# Altium footprint library IFBpcblib_offline.PcbLib: 137 footprints (part 4 of 9)
Each footprint in its own frame and in the unit in brackets; x right, y up, seen from the top. Pads: shape width x height; smd on the part's side, far side on the other; paste and mask are expansions set on the pad; w line width, h text height; cw(c..) or ccw(c..) is an arc to the next point about the centre after c.
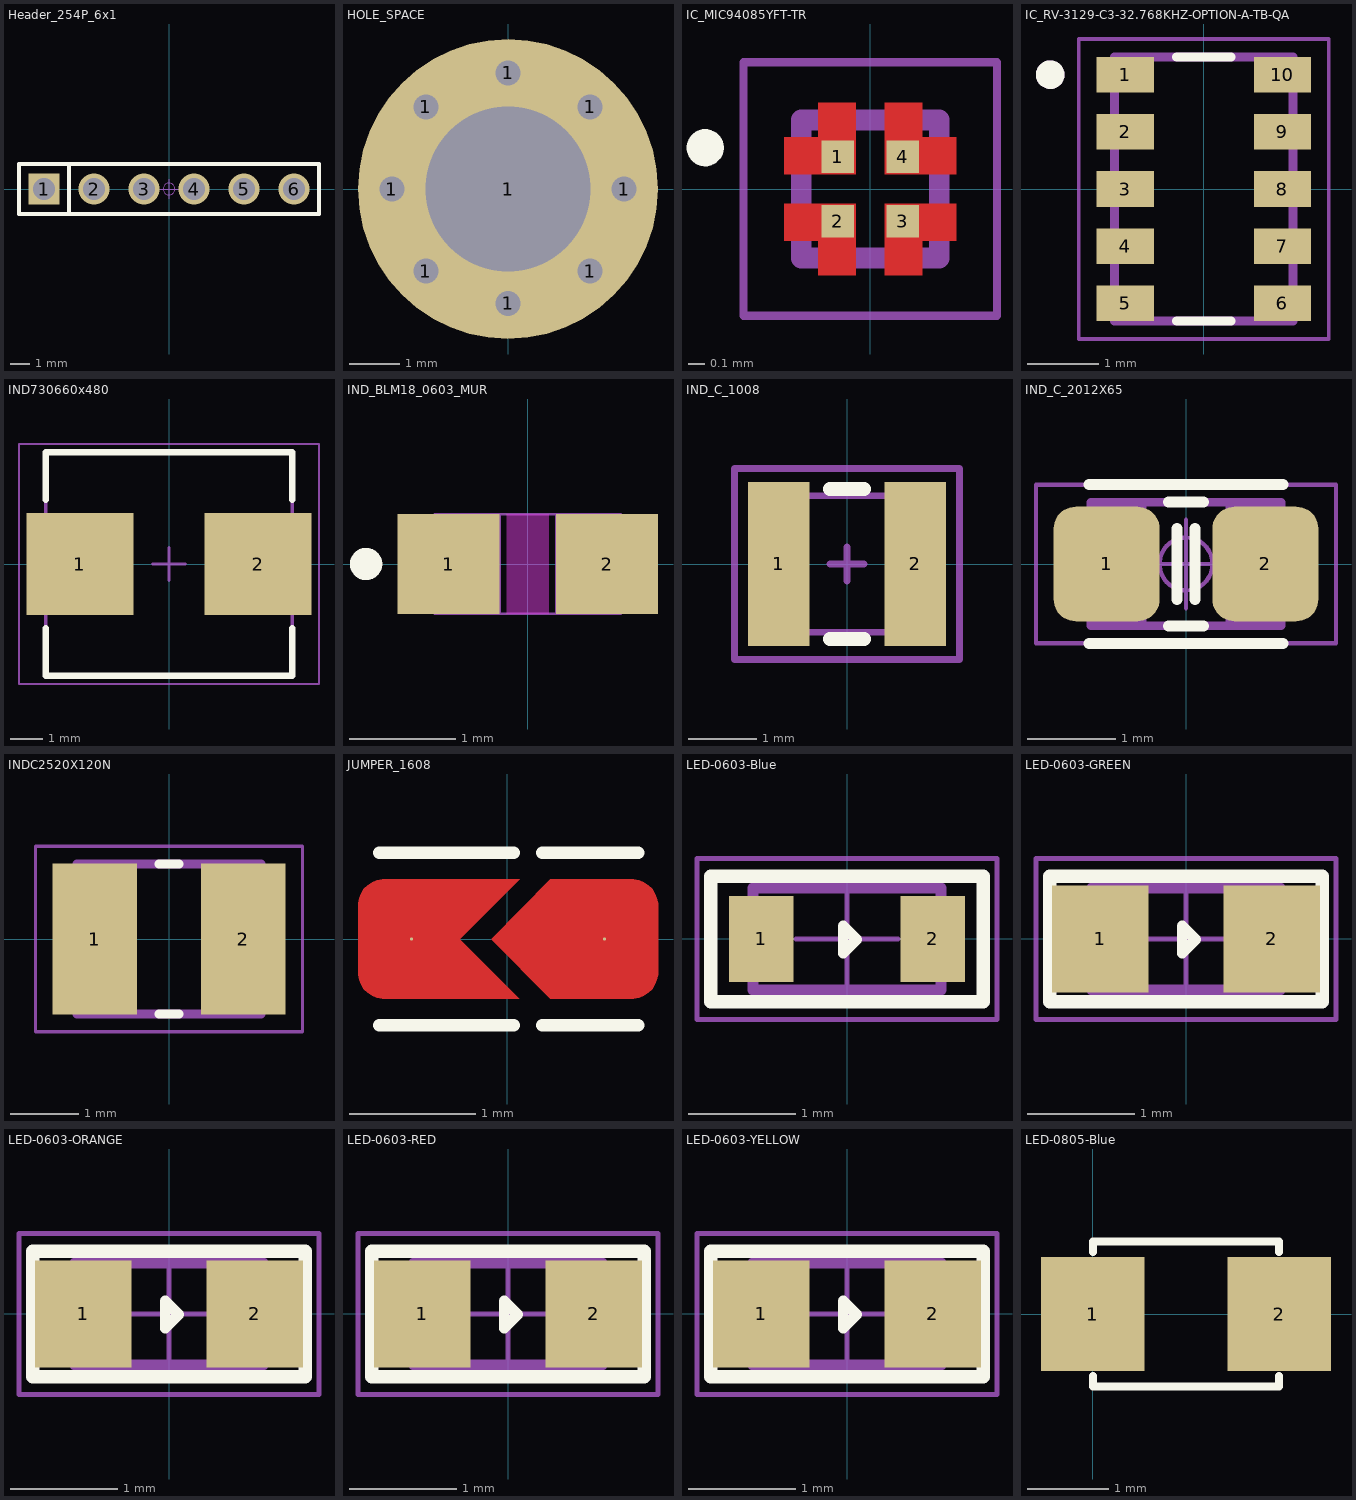
[diagram p3: the footprints below, top view; thin cyan lines are the x and y axes]

## Header_254P_6x1 [mm]
pads (6):
  rect 1.6x1.6 hole 1.1: 1(-6.35,0)
  round 1.6 hole 1.1: 2(-3.81,0) 3(-1.27,0) 4(1.27,0) 5(3.81,0) 6(6.35,0)
Top Overlay:
  lines w0.2: -5.08,-1.27 -5.08,1.27 ; -7.62,-1.27 -7.62,1.27 7.62,1.27 7.62,-1.27 -7.62,-1.27
Top Assembly:
  lines w0.2: -5.08,-1.27 -5.08,1.27 ; -7.62,-1.27 -7.62,1.27 7.62,1.27 7.62,-1.27 -7.62,-1.27
  text "'.Designator'" at -3.952,-0.624 h1.5
Top Component Center:
  circle w0.05: c0,0 r0.3
  lines w0.05: -0.5,0 0.5,0 ; 0,-0.5 0,0.5

## HOLE_SPACE [mm]
pads (9):
  round 1 hole 0.5: 1(-2.325,0) 1(-1.644,-1.644) 1(-1.644,1.644) 1(0,-2.286) 1(0,2.325) 1(1.644,-1.644) 1(1.644,1.644) 1(2.325,0)
  round 6 hole 3.3: 1(0,0)

## IC_MIC94085YFT-TR [mm]
height 0.6
pads (4):
  rect 0.2x0.2 smd paste-1 mask+0: 1(-0.2,0.2) 2(-0.2,-0.2) 3(0.2,-0.2) 4(0.2,0.2)
Top Layer:
  region: 0.32,0.32 0.53,0.32 0.53,0.09 0.09,0.09 0.09,0.53 0.32,0.53
  region: -0.09,-0.53 -0.32,-0.53 -0.32,-0.32 -0.53,-0.32 -0.53,-0.09 -0.09,-0.09
  region: 0.53,-0.32 0.32,-0.32 0.32,-0.53 0.09,-0.53 0.09,-0.09 0.53,-0.09
  region: -0.09,0.09 -0.53,0.09 -0.53,0.32 -0.32,0.32 -0.32,0.53 -0.09,0.53
Top Overlay:
  circle w0.127: c-1.016,0.254 r0.051
Top Paste:
  region: 0.32,0.32 0.49,0.32 0.49,0.09 0.09,0.09 0.09,0.53 0.32,0.53
  region: -0.09,-0.53 -0.32,-0.53 -0.32,-0.32 -0.49,-0.32 -0.49,-0.09 -0.09,-0.09
  region: 0.49,-0.32 0.32,-0.32 0.32,-0.53 0.09,-0.53 0.09,-0.09 0.49,-0.09
  region: -0.09,0.09 -0.49,0.09 -0.49,0.32 -0.32,0.32 -0.32,0.53 -0.09,0.53
Top Solder:
  region: 0.37,0.37 0.58,0.37 0.58,0.04 0.04,0.04 0.04,0.58 0.37,0.58
  region: -0.04,-0.58 -0.37,-0.58 -0.37,-0.37 -0.58,-0.37 -0.58,-0.04 -0.04,-0.04
  region: 0.58,-0.37 0.37,-0.37 0.37,-0.58 0.04,-0.58 0.04,-0.04 0.58,-0.04
  region: -0.04,0.04 -0.58,0.04 -0.58,0.37 -0.37,0.37 -0.37,0.58 -0.04,0.58
Mechanical 13:
  lines w0.127: -0.425,-0.425 -0.425,0.425 0.425,0.425 0.425,-0.425 -0.425,-0.425
Mechanical 15:
  lines w0.05: -0.78,-0.78 -0.78,0.78 0.78,0.78 0.78,-0.78 -0.78,-0.78
3D body "step_temp.STEP": height 0.6, standoff 0, extent -0.425,-0.425 0.425,0.425

## IC_RV-3129-C3-32.768KHZ-OPTION-A-TB-QA [mm]
height 0.9
pads (10):
  rect 0.8x0.5 smd: 1(-1.1,1.6) 2(-1.1,0.8) 3(-1.1,0) 4(-1.1,-0.8) 5(-1.1,-1.6) 6(1.1,-1.6) 7(1.1,-0.8) 8(1.1,0) 9(1.1,0.8) 10(1.1,1.6)
Top Overlay:
  circle w0.2: c-2.15,1.6 r0.1
  lines w0.127: -0.38,-1.85 0.38,-1.85 ; -0.38,1.85 0.38,1.85
Mechanical 13:
  circle w0.2: c-2.15,1.6 r0.1
  lines w0.127: -1.25,-1.85 1.25,-1.85 1.25,1.85 -1.25,1.85 -1.25,-1.85
Mechanical 15:
  lines w0.05: -1.75,-2.1 1.75,-2.1 1.75,2.1 -1.75,2.1 -1.75,-2.1
3D body "RV-3129-C3-32.768KHZ-OPTION-A-TB-QA.step": height 0.9, standoff 0, extent -1.25,-1.85 1.25,1.85

## IND730660x480 [mm] "Precision Wire Wound Inductor, 2-Leads, Body 7.30x6.60mm, IPC Medium Density"
height 4.8
pads (2):
  rect 3.3x3.15 smd: 1(-2.75,0) 2(2.75,0)
Top Overlay:
  lines w0.2: -3.8,-1.975 -3.8,-3.45 3.8,-3.45 3.8,-1.975 ; -3.8,1.975 -3.8,3.45 3.8,3.45 3.8,1.975
Top Courtyard:
  lines w0.05: -4.625,-3.7 4.625,-3.7 4.625,3.7 -4.625,3.7 -4.625,-3.7
  lines w0.1: -0.5,0 0.5,0 ; 0,-0.5 0,0.5
Top 3D Body:
  lines w0.1: -3.8,-3.45 3.8,-3.45 3.8,3.45 -3.8,3.45 -3.8,-3.45
3D body "PSM6050 Molded high current inductor.STEP": height 4.91, standoff -0.05, extent -3.6,-3.3 3.6,3.3

## IND_BLM18_0603_MUR [mil]
pads (2):
  rect 37.78x37 smd paste+0 mask+0: 1(-29.39,0) 2(29.39,0)
Top Layer keep-out:
  rectangle: -7.87,-18.5 7.87,18.5
Top Overlay:
  circle w6: c-60,0 r3
Mechanical 13:
  circle w0: c-24.39,0 r3
  lines w1: -34.5,-18.5 -34.5,18.5 ; -34.5,-18.5 -10.5,-18.5 -10.5,18.5 -34.5,18.5 ; -34.5,-18.5 34.5,-18.5 ; -34.5,-18.5 -34.5,18.5 ; -34.5,18.5 34.5,18.5 ; 34.5,-18.5 10.5,-18.5 10.5,18.5 34.5,18.5 ; 34.5,-18.5 34.5,18.5 ; 34.5,-18.5 34.5,18.5
3D body "IND_BLM18_0603_MUR.step": height 37.01, standoff 0, extent -34.49,-18.5 34.49,18.5

## IND_C_1008 [mm]
pads (2):
  rect 0.9x2.4 smd mask+0.075: 1(-1,0) 2(1,0)
Top Overlay:
  lines w0.2: -0.25,-1.1 0.25,-1.1 ; -0.25,1.1 0.25,1.1
Top Assembly:
  lines w0.1: -1.25,-1 1.25,-1 1.25,1 -1.25,1 -1.25,-1
  text "'.Designator'" at -0.6,-0.25 h0.5
Top Courtyard:
  lines w0.1: -0.25,0 0.25,0 ; 0,-0.25 0,0.25 ; -1.65,-1.4 -1.65,1.4 1.65,1.4 1.65,-1.4 -1.65,-1.4
3D body: height 1.2, standoff 0, extent 0.663,-1 1.263,1
3D body: height 1.2, standoff 0, extent -0.637,-0.975 0.663,0.975
3D body: height 1.2, standoff 0, extent -1.237,-1 -0.637,1

## IND_C_2012X65 [mm] "Chip Inductor, 2-Leads, Body 2.00x1.25mm, IPC High Density"
height 0.65
pads (2):
  rrect41% 1.2x1.3 smd: 1(-0.9,0) 2(0.9,0)
Top Overlay:
  lines w0.125: -1.1,-0.9 1.1,-0.9 ; -1.1,0.9 1.1,0.9 ; -0.2,-0.7 0.2,-0.7 ; -0.2,0.7 0.2,0.7 ; -0.1,-0.4 -0.1,0.4 ; 0.1,-0.4 0.1,0.4
Top Assembly:
  lines w0.1: -1.075,-0.7 1.075,-0.7 1.075,0.7 -1.075,0.7 -1.075,-0.7
  text "'.Designator'" at -4.217,-0.663 h1.6
Top Courtyard:
  lines w0.05: -1.7,-0.9 1.7,-0.9 1.7,0.9 -1.7,0.9 -1.7,-0.9
Top Component Outline:
  rectangle: -1.1,-0.7 -0.45,0.7
  region: 1.1,0.7 0.45,0.7 0.45,-0.7 1.1,-0.7
  lines w0.05: -1.1,-0.7 -1.1,0.7 1.1,0.7 1.1,-0.7 -1.1,-0.7
Top Component Center:
  circle w0.05: c0,0 r0.3
  lines w0.05: -0.5,0 0.5,0 ; 0,-0.5 0,0.5
3D body "RESC2012X65.step": height 0.65, standoff 0, extent -1.075,-0.7 1.075,0.7

## INDC2520X120N [mm]
pads (2):
  rect 1.24x2.22 smd: 1(-1.09,0) 2(1.09,0)
Top Overlay:
  lines w0.127: -0.15,-1.1 0.15,-1.1 ; -0.15,1.1 0.15,1.1
Mechanical 13:
  lines w0.127: -1.35,-1.1 1.35,-1.1 1.35,1.1 -1.35,1.1 -1.35,-1.1
Mechanical 15:
  lines w0.05: -1.958,-1.358 1.958,-1.358 1.958,1.358 -1.958,1.358 -1.958,-1.358
3D body "DFE252012P-1R5M_P2.step": height 1.2, standoff 0, extent -1.25,-1 1.25,1

## JUMPER_1608 [mil]
pads (2):
  round 1 smd: 1(30.51,0)
  round 1 smd paste-99999 mask+4: 2(-30,0)
Top Layer:
  region: 38.88,-18.7 13.56,-18.7 -5,0 13.56,18.7 38.88,18.7 39.7,18.7 41.32,18.38 42.84,17.75 44.21,16.83 45.38,15.67 46.29,14.3 46.92,12.77 47.24,11.16 47.24,10.33 47.24,-10.33 47.24,-11.16 46.92,-12.77 46.29,-14.3 45.38,-15.67 44.21,-16.83 42.84,-17.75 41.32,-18.38 39.7,-18.7
  region: -14.86,-0.09 3.75,-18.7 -38.37,-18.7 -39.19,-18.7 -40.81,-18.38 -42.33,-17.75 -43.7,-16.83 -44.86,-15.67 -45.78,-14.3 -46.41,-12.77 -46.73,-11.16 -46.73,-10.33 -46.73,10.33 -46.73,11.16 -46.41,12.77 -45.78,14.3 -44.86,15.67 -43.7,16.83 -42.33,17.75 -40.81,18.38 -39.19,18.7 -38.37,18.7 3.93,18.7
Top Overlay:
  lines w3.94: -40,-27 2,-27 ; -40,27 2,27 ; 11,-27 41,-27 ; 11,27 41,27

## LED-0603-Blue [mm]
pads (2):
  rect 0.6x0.8 smd: 1(-0.8,0) 2(0.8,0)
Top Overlay:
  lines w0.1: -0.036,-0.133 0.091,-0.006 -0.036,0.121 -0.036,-0.133
  lines w0.127: -1.27,-0.584 -1.27,0.584 1.27,0.584 1.27,-0.584 -1.27,-0.584
Mechanical 13:
  lines w0.1: -0.875,-0.475 -0.875,0.475 0.875,0.475 0.875,-0.475 -0.875,-0.475
Mechanical 15:
  lines w0.05: -0.475,0 0.475,0 ; 0,-0.475 0,0.475 ; -1.397,-0.75 -1.397,0.75 1.397,0.75 1.397,-0.75 -1.397,-0.75
3D body "SMD_0603LED_BLUE.STEP": height 0.98, standoff 0.1, extent -0.808,-0.5 0.808,0.5

## LED-0603-GREEN [mm]
pads (2):
  rect 0.9x1 smd: 1(-0.8,0) 2(0.8,0)
Top Overlay:
  lines w0.1: -0.036,-0.133 -0.036,0.121 0.091,-0.006 -0.036,-0.133
  lines w0.127: -1.27,-0.584 1.27,-0.584 1.27,0.584 -1.27,0.584 -1.27,-0.584
Mechanical 13:
  lines w0.1: -0.875,-0.475 0.875,-0.475 0.875,0.475 -0.875,0.475 -0.875,-0.475
Mechanical 15:
  lines w0.05: -0.475,0 0.475,0 ; 0,-0.475 0,0.475 ; -1.397,-0.75 1.397,-0.75 1.397,0.75 -1.397,0.75 -1.397,-0.75
3D body "SMD_0603LED_GREEN.STEP": height 0.98, standoff 0.1, extent -0.808,-0.5 0.808,0.5

## LED-0603-ORANGE [mm]
pads (2):
  rect 0.9x1 smd: 1(-0.8,0) 2(0.8,0)
Top Overlay:
  lines w0.1: -0.036,-0.133 0.091,-0.006 -0.036,0.121 -0.036,-0.133
  lines w0.127: -1.27,-0.584 -1.27,0.584 1.27,0.584 1.27,-0.584 -1.27,-0.584
Mechanical 13:
  lines w0.1: -0.875,-0.475 -0.875,0.475 0.875,0.475 0.875,-0.475 -0.875,-0.475
Mechanical 15:
  lines w0.05: -0.475,0 0.475,0 ; 0,-0.475 0,0.475 ; -1.397,-0.75 -1.397,0.75 1.397,0.75 1.397,-0.75 -1.397,-0.75
3D body "LED0603_Orange.step": height 0.9, standoff 0, extent -0.85,-0.45 0.85,0.45

## LED-0603-RED [mm]
pads (2):
  rect 0.9x1 smd: 1(-0.8,0) 2(0.8,0)
Top Overlay:
  lines w0.1: -0.036,-0.133 0.091,-0.006 -0.036,0.121 -0.036,-0.133
  lines w0.127: -1.27,-0.584 -1.27,0.584 1.27,0.584 1.27,-0.584 -1.27,-0.584
Mechanical 13:
  lines w0.1: -0.875,-0.475 -0.875,0.475 0.875,0.475 0.875,-0.475 -0.875,-0.475
Mechanical 15:
  lines w0.05: -0.475,0 0.475,0 ; 0,-0.475 0,0.475 ; -1.397,-0.75 -1.397,0.75 1.397,0.75 1.397,-0.75 -1.397,-0.75
3D body "SMD_0603LED_RED.STEP": height 0.98, standoff 0.1, extent -0.808,-0.5 0.808,0.5

## LED-0603-YELLOW [mm]
pads (2):
  rect 0.9x1 smd: 1(-0.8,0) 2(0.8,0)
Top Overlay:
  lines w0.1: -0.036,-0.133 -0.036,0.121 0.091,-0.006 -0.036,-0.133
  lines w0.127: -1.27,-0.584 1.27,-0.584 1.27,0.584 -1.27,0.584 -1.27,-0.584
Mechanical 13:
  lines w0.1: -0.875,-0.475 0.875,-0.475 0.875,0.475 -0.875,0.475 -0.875,-0.475
Mechanical 15:
  lines w0.05: -0.475,0 0.475,0 ; 0,-0.475 0,0.475 ; -1.397,-0.75 1.397,-0.75 1.397,0.75 -1.397,0.75 -1.397,-0.75
3D body "SMD_0603LED_YEL.STEP": height 0.98, standoff 0.1, extent -0.808,-0.5 0.808,0.5

## LED-0805-Blue [mil]
pads (2):
  rect 50x55 smd: 1(0,0) 2(90,0)
Top Overlay:
  lines w4: 0,-30 0,-35 90,-35 90,-30 ; 0,30 0,35 90,35 90,30
3D body "User Library-led_0805-blue.step": height 43.31, standoff 0, extent 5.23,-24.61 84.76,24.6